# Altium schematic symbol library SCH - POWER - SWITCHMODE - TI TPS63060DSC.SchLib: 1 symbol
Pins are listed as number, name and electrical type; pins without a type are passive.

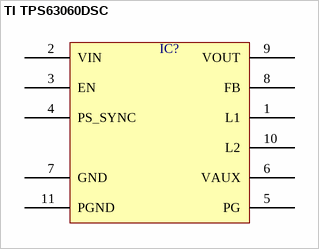
[diagram p0: symbol TI TPS63060DSC]

## TI TPS63060DSC
designator IC?  (value not drawn)
pins: 1 L1, 2 VIN, 3 EN, 4 PS_SYNC, 5 PG, 6 VAUX, 7 GND, 8 FB, 9 VOUT, 10 L2, 11 PGND